# EAGLE library part TLV320AIC34_ZAS_87 (library Texas Instruments)
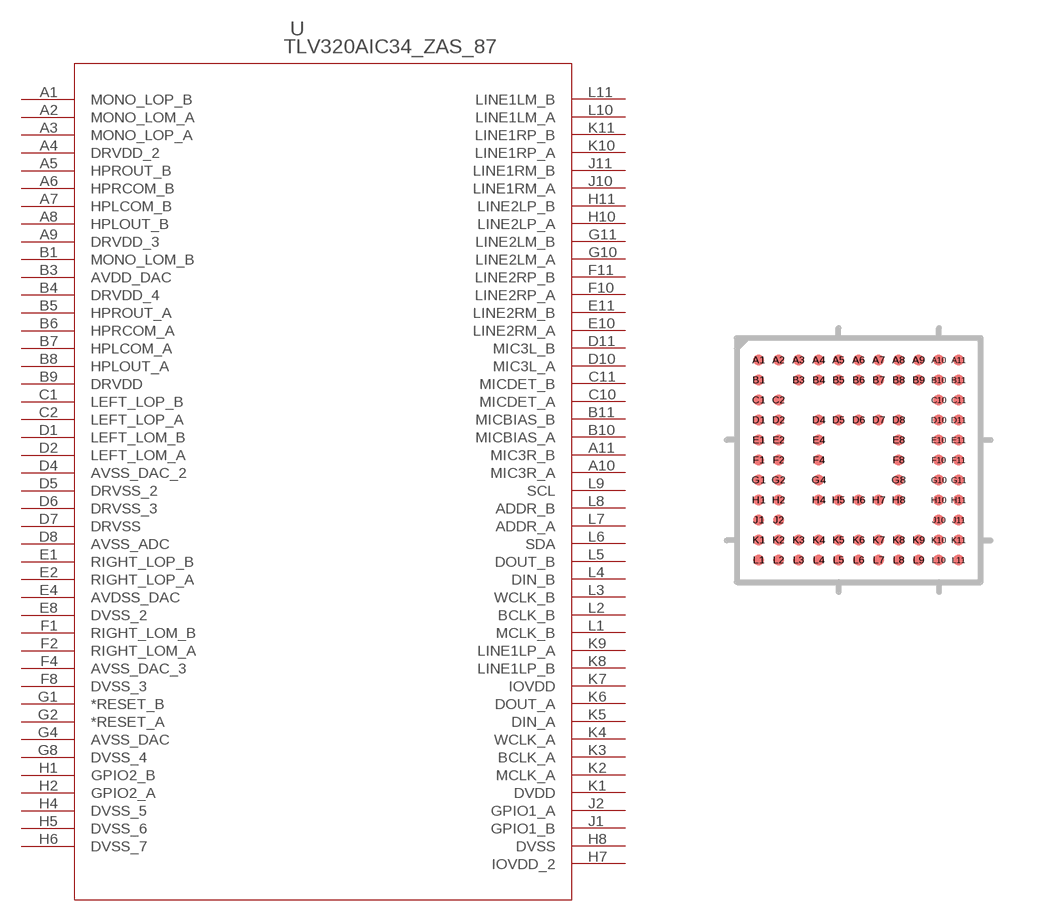
[diagram p2: symbol with the pads of ZAS87; footprint ZAS87]

Designator prefix U

## TLV320AIC34_ZAS_87 (DATASHEETURL: http://www.ti.com/lit/gpn/TLV320AIC34; DESCRIPTION: Low-Power four-channel CODEC; FAMILY_NAME: Audio CODEC; GENERIC_PART_NUMBER: TLV320AIC34; INDUSTRY_STD_PKG_TYPE: NFBGA; MANUFACTURER: Texas Instruments; MANUFACTURER_PART_NUMBER: tlv320aic34_zas_87; PACKAGE_DESIGNATOR: ZAS; PIN_COUNT: 87; VENDOR: Texas Instruments)  [ZAS87]
A1  MONO_LOP_B  out
A2  MONO_LOM_A  out
A3  MONO_LOP_A  out
A4  DRVDD_2  pwr
A5  HPROUT_B  out
A6  HPRCOM_B  out
A7  HPLCOM_B  out
A8  HPLOUT_B  out
A9  DRVDD_3  pwr
A10  MIC3R_A  in
A11  MIC3R_B  in
B1  MONO_LOM_B  out
B3  AVDD_DAC  pwr
B4  DRVDD_4  pwr
B5  HPROUT_A  out
B6  HPRCOM_A  out
B7  HPLCOM_A  out
B8  HPLOUT_A  out
B9  DRVDD  pwr
B10  MICBIAS_A  out
B11  MICBIAS_B  out
C1  LEFT_LOP_B  out
C2  LEFT_LOP_A  out
C10  MICDET_A  in
C11  MICDET_B  in
D1  LEFT_LOM_B  out
D2  LEFT_LOM_A  out
D4  AVSS_DAC_2  pwr
D5  DRVSS_2  pwr
D6  DRVSS_3  pwr
D7  DRVSS  pwr
D8  AVSS_ADC  pwr
D10  MIC3L_A  in
D11  MIC3L_B  in
E1  RIGHT_LOP_B  out
E2  RIGHT_LOP_A  out
E4  AVDSS_DAC  pwr
E8  DVSS_2  pwr
E10  LINE2RM_A  in
E11  LINE2RM_B  in
F1  RIGHT_LOM_B  out
F2  RIGHT_LOM_A  out
F4  AVSS_DAC_3  pwr
F8  DVSS_3  pwr
F10  LINE2RP_A  in
F11  LINE2RP_B  in
G1  *RESET_B  in
G2  *RESET_A  in
G4  AVSS_DAC  pwr
G8  DVSS_4  pwr
G10  LINE2LM_A  in
G11  LINE2LM_B  in
H1  GPIO2_B
H2  GPIO2_A
H4  DVSS_5  pwr
H5  DVSS_6  pwr
H6  DVSS_7  pwr
H7  IOVDD_2  pwr
H8  DVSS  pwr
H10  LINE2LP_A  in
H11  LINE2LP_B  in
J1  GPIO1_B
J2  GPIO1_A
J10  LINE1RM_A  in
J11  LINE1RM_B  in
K1  DVDD  pwr
K2  MCLK_A  in
K3  BCLK_A
K4  WCLK_A
K5  DIN_A  in
K6  DOUT_A  out
K7  IOVDD  pwr
K8  LINE1LP_B  in
K9  LINE1LP_A  in
K10  LINE1RP_A  in
K11  LINE1RP_B  in
L1  MCLK_B  in
L2  BCLK_B
L3  WCLK_B
L4  DIN_B  in
L5  DOUT_B  out
L6  SDA
L7  ADDR_A  in
L8  ADDR_B  in
L9  SCL
L10  LINE1LM_A  in
L11  LINE1LM_B  in

## Footprint ZAS87 (pad centres in mm)
smd 0.279 x 0.279: A1 -2.5,2.5; A2 -2,2.5; A3 -1.5,2.5; A4 -1,2.5; A5 -0.5,2.5; A6 0,2.5; A7 0.5,2.5; A8 1,2.5; A9 1.5,2.5; A10 2,2.5; A11 2.5,2.5; B1 -2.5,2; B3 -1.5,2; B4 -1,2; B5 -0.5,2; B6 0,2; B7 0.5,2; B8 1,2; B9 1.5,2; B10 2,2; B11 2.5,2; C1 -2.5,1.5; C2 -2,1.5; C10 2,1.5; C11 2.5,1.5; D1 -2.5,1; D2 -2,1; D4 -1,1; D5 -0.5,1; D6 0,1; D7 0.5,1; D8 1,1; D10 2,1; D11 2.5,1; E1 -2.5,0.5; E2 -2,0.5; E4 -1,0.5; E8 1,0.5; E10 2,0.5; E11 2.5,0.5; F1 -2.5,0; F2 -2,0; F4 -1,0; F8 1,0; F10 2,0; F11 2.5,0; G1 -2.5,-0.5; G2 -2,-0.5; G4 -1,-0.5; G8 1,-0.5; G10 2,-0.5; G11 2.5,-0.5; H1 -2.5,-1; H2 -2,-1; H4 -1,-1; H5 -0.5,-1; H6 0,-1; H7 0.5,-1; H8 1,-1; H10 2,-1; H11 2.5,-1; J1 -2.5,-1.5; J2 -2,-1.5; J10 2,-1.5; J11 2.5,-1.5; K1 -2.5,-2; K2 -2,-2; K3 -1.5,-2; K4 -1,-2; K5 -0.5,-2; K6 0,-2; K7 0.5,-2; K8 1,-2; K9 1.5,-2; K10 2,-2; K11 2.5,-2; L1 -2.5,-2.5; L2 -2,-2.5; L3 -1.5,-2.5; L4 -1,-2.5; L5 -0.5,-2.5; L6 0,-2.5; L7 0.5,-2.5; L8 1,-2.5; L9 1.5,-2.5; L10 2,-2.5; L11 2.5,-2.5